# Altium footprint library SO8-SPE-IRF7832.PcbLib: 1 footprints
Each footprint in its own frame and in the unit in brackets; x right, y up, seen from the top. Pads: shape width x height; smd on the part's side, far side on the other; paste and mask are expansions set on the pad; w line width, h text height; cw(c..) or ccw(c..) is an arc to the next point about the centre after c.
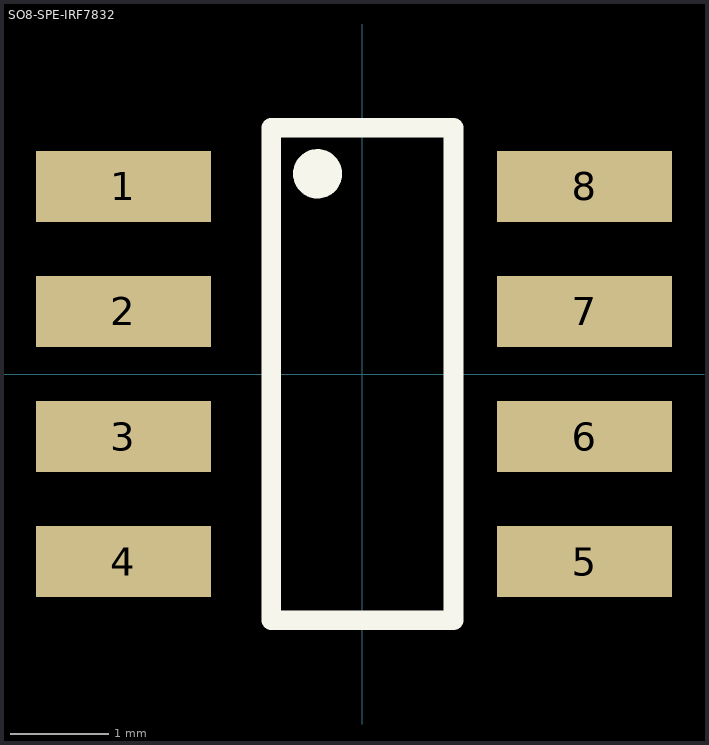
[diagram p0: the footprint, top view; thin cyan lines are the x and y axes]

## SO8-SPE-IRF7832 [mm]
pads (8):
  rect 1.78x0.72 smd: 1(-2.425,1.905) 2(-2.425,0.635) 3(-2.425,-0.635) 4(-2.425,-1.905) 5(2.255,-1.905) 6(2.255,-0.635) 7(2.255,0.635) 8(2.255,1.905)
Top Overlay:
  circle w0.25: c-0.455,2.032 r0.125
  lines w0.2: -0.925,-2.5 0.925,-2.5 0.925,2.5 -0.925,2.5 -0.925,-2.5
3D body: height 1.73, standoff -0.04, extent -3.17,-2.445 2.967,2.445